# EAGLE library part 1X11_HEADER (library NU32PIC)
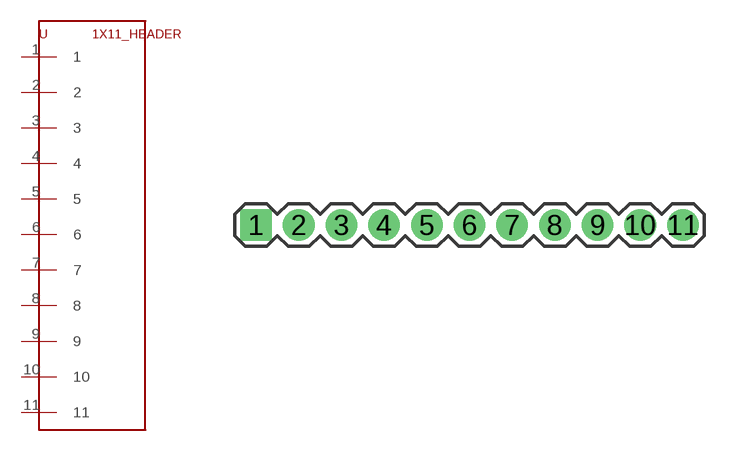
[diagram p7: symbol with the pads of 1X11; footprint 1X11]

Designator prefix -

## 1X11_HEADER  [1X11]
1  1
2  2
3  3
4  4
5  5
6  6
7  7
8  8
9  9
10  10
11  11

## Footprint 1X11 (pad centres in mm)
drill 1.016 pad 1.88 square: 1 0,0
drill 1.016 pad 1.88 round: 2 2.54,0; 3 5.08,0; 4 7.62,0; 5 10.16,0; 6 12.7,0; 7 15.24,0; 8 17.78,0; 9 20.32,0; 10 22.86,0; 11 25.4,0